# EAGLE library part AD8495 (library Analog)
AD8495 Precision Thermocouple Amplifiers with Cold Junction Compensation. Datasheet <http://www.analog.com/media/en/technical-documentation/data-sheets/AD8494_8495_8496_8497.pdf>
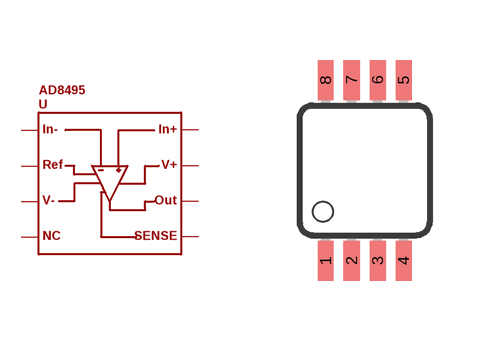
[diagram p0: symbol with the pads of MSOP08; footprint MSOP08]

Designator prefix -

## AD8495  [MSOP08]
1  P$1
2  P$2
3  P$3
4  P$4
5  P$5
6  P$6
7  P$7
8  P$8

## Footprint MSOP08 (pad centres in mm)
8-Lead micro SO (RM-8) Source: http://www.analog.com/UploadedFiles/Data_Sheets/703465986AD8611_2_0.pdf
smd 0.4 x 1: 1 -0.976,-2.263; 2 -0.326,-2.263; 3 0.324,-2.263; 4 0.974,-2.263; 5 0.974,2.262; 6 0.324,2.262; 7 -0.326,2.262; 8 -0.976,2.262